# Altium integrated library TI Amplifiers and Linear Special Function Amplifier.IntLib: 708 symbols (part 26 of 47)
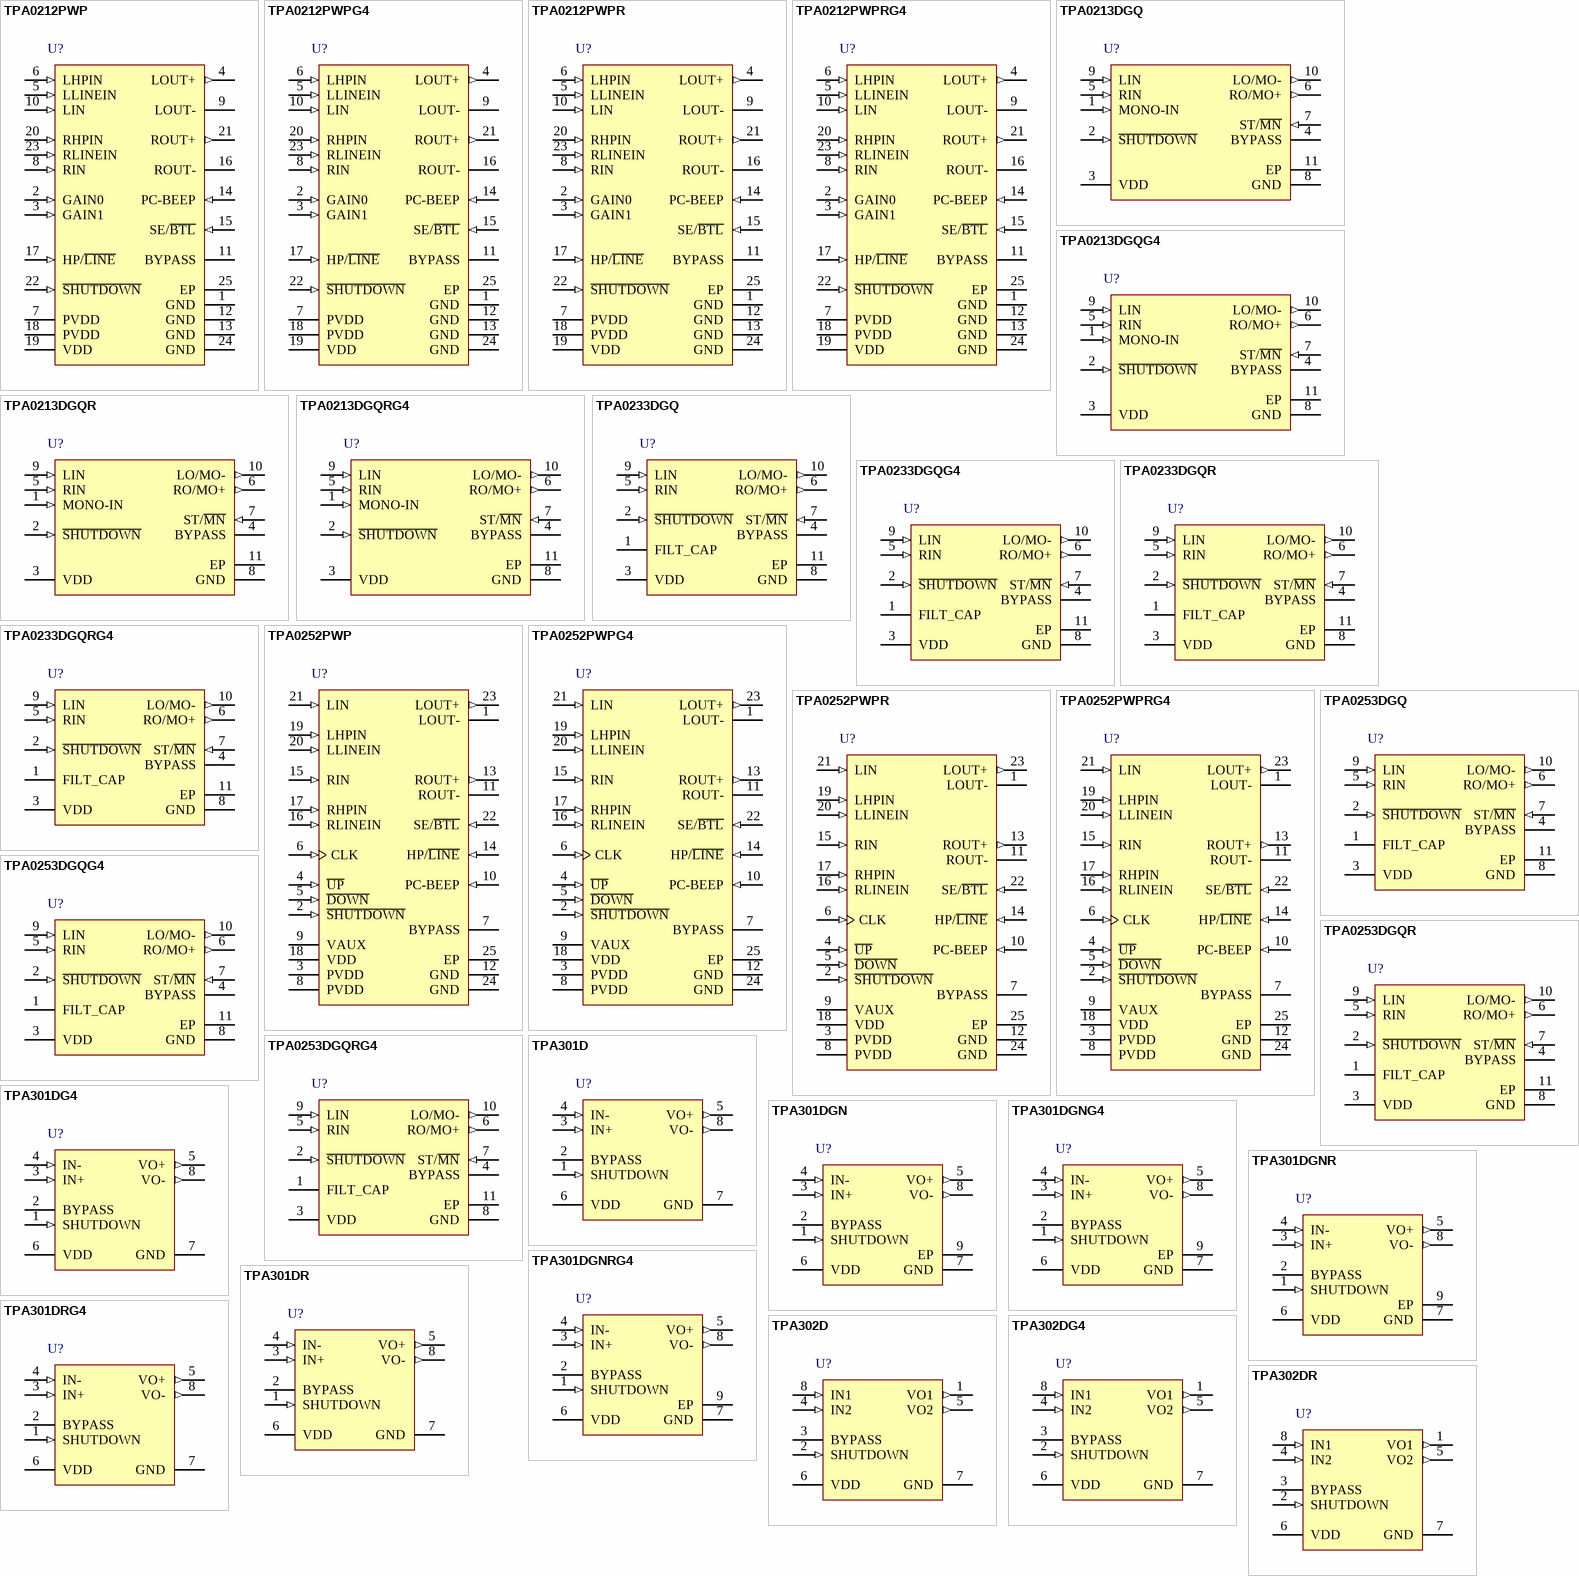
[diagram p64: symbols TPA0212PWP to TPA302DR]

## TPA0213DGQR
designator U?
Mono Class-AB Audio Amplifier with Stereo Headphone Drive--Separate Input, -40 to 85 degC, 10-pin SOP (DGQ10), Green (RoHS & no Sb/Br); Manufacturer: Texas Instruments; PartNumber: TPA0213DGQR; Output Power(W): 2; PSRR(dB): 62; SubFamily: Dynamic Speaker; Supply Max(Max)(Volt): 5.5; Supply Min(Min)(Volt): 2.5; DatasheetVersion: SLOS276D; PackageVersion: 4073273/F, 11/2011; PackageReference: DGQ10-1675X1445TP; PackageDescription: 10-Pin Plastic Small Outline, Body 3 x 3 mm, Pitch 0.5 mm; Supplier 1: Digi-Key; Supplier Part Number 1: 296-7001-2-ND; Supplier 2: Digi-Key; Supplier Part Number 2: 296-7001-1-ND; Supplier 3: Digi-Key; Supplier Part Number 3: 296-7001-6-ND; Supplier 4: Mouser; Supplier Part Number 4: 595-TPA0213DGQR; Eco-Plan: Green (RoHS & no Sb/Br); Headphone Channels: Stereo; Speaker Amp Type: Class-AB; Speaker Channels: Mono; Mounting Technology: Surface Mount; Code_JEDEC: MO-187; ComponentLink1Description: Manufacturer URL; ComponentLink1URL: http://www.ti.com/; ComponentLink2Description: Datasheet; ComponentLink2URL: http://www.ti.com/general/docs/lit/getliterature.tsp?genericPartNumber=TPA0213&fileType=pdf; ComponentLink3Description: Package Specification; ComponentLink3URL: http://www.ti.com/litv/pdf/mpds043e
footprint TI-DGQ10-1675X1445TP_N (SOP, 10-Leads, Body 3.1x3.1mm, Pitch 0.5mm, Thermal Pad 1.88x1.57mm, IPC Medium Density)
footprint TI-DGQ10-1675X1445TP_L (SOP, 10-Leads, Body 3.1x3.1mm, Pitch 0.5mm, Thermal Pad 1.88x1.57mm, IPC High Density)
footprint TI-DGQ10-1675X1445TP_M (SOP, 10-Leads, Body 3.1x3.1mm, Pitch 0.5mm, Thermal Pad 1.88x1.57mm, IPC Low Density)
pins: 1 MONO-IN (in) "Mono input terminal", 2 ~{SHUTDOWN} (in) "S\H\U\T\D\O\W\N\ places the entire device in shutdown mode when held low. TTL compatible input.", 3 VDD (power) "VDD is the supply voltage terminal.", 4 BYPASS "BYPASS is the tap to the voltage divider for internal mid-supply bias. This terminal should be connected to a 0.1-uF to 1-uF capacitor.", 5 RIN (in) "Right-channel input terminal", 6 RO/MO+ (out) "Right-output in SE mode and mono positive output in BTL mode", 7 ST/~{MN} (in) "Selects between stereo and mono mode. When held high, the amplifier is in SE stereo mode, while held low,the amplifier is in BTL mono mode.", 8 GND (power) "Ground terminal", 9 LIN (in) "Left-channel input terminal", 10 LO/MO- (out) "Left-output in SE mode and mono negative output in BTL mode.", 11 EP

## TPA0213DGQRG4
designator U?
Mono Class-AB Audio Amplifier with Stereo Headphone Drive--Separate Input, -40 to 85 degC, 10-pin SOP (DGQ10), Green (RoHS & no Sb/Br); Manufacturer: Texas Instruments; PartNumber: TPA0213DGQRG4; Output Power(W): 2; PSRR(dB): 62; SubFamily: Dynamic Speaker; Supply Max(Max)(Volt): 5.5; Supply Min(Min)(Volt): 2.5; DatasheetVersion: SLOS276D; PackageVersion: 4073273/F, 11/2011; PackageReference: DGQ10-1675X1445TP; PackageDescription: 10-Pin Plastic Small Outline, Body 3 x 3 mm, Pitch 0.5 mm; Supplier 1: Digi-Key; Supplier Part Number 1: TPA0213DGQRG4-ND; Supplier 2: Mouser; Supplier Part Number 2: 595-TPA0213DGQRG4; Eco-Plan: Green (RoHS & no Sb/Br); Headphone Channels: Stereo; Speaker Amp Type: Class-AB; Speaker Channels: Mono; Mounting Technology: Surface Mount; Code_JEDEC: MO-187; ComponentLink1Description: Manufacturer URL; ComponentLink1URL: http://www.ti.com/; ComponentLink2Description: Datasheet; ComponentLink2URL: http://www.ti.com/general/docs/lit/getliterature.tsp?genericPartNumber=TPA0213&fileType=pdf; ComponentLink3Description: Package Specification; ComponentLink3URL: http://www.ti.com/litv/pdf/mpds043e
footprint TI-DGQ10-1675X1445TP_N (SOP, 10-Leads, Body 3.1x3.1mm, Pitch 0.5mm, Thermal Pad 1.88x1.57mm, IPC Medium Density)
footprint TI-DGQ10-1675X1445TP_L (SOP, 10-Leads, Body 3.1x3.1mm, Pitch 0.5mm, Thermal Pad 1.88x1.57mm, IPC High Density)
footprint TI-DGQ10-1675X1445TP_M (SOP, 10-Leads, Body 3.1x3.1mm, Pitch 0.5mm, Thermal Pad 1.88x1.57mm, IPC Low Density)
pins: 1 MONO-IN (in) "Mono input terminal", 2 ~{SHUTDOWN} (in) "S\H\U\T\D\O\W\N\ places the entire device in shutdown mode when held low. TTL compatible input.", 3 VDD (power) "VDD is the supply voltage terminal.", 4 BYPASS "BYPASS is the tap to the voltage divider for internal mid-supply bias. This terminal should be connected to a 0.1-uF to 1-uF capacitor.", 5 RIN (in) "Right-channel input terminal", 6 RO/MO+ (out) "Right-output in SE mode and mono positive output in BTL mode", 7 ST/~{MN} (in) "Selects between stereo and mono mode. When held high, the amplifier is in SE stereo mode, while held low,the amplifier is in BTL mono mode.", 8 GND (power) "Ground terminal", 9 LIN (in) "Left-channel input terminal", 10 LO/MO- (out) "Left-output in SE mode and mono negative output in BTL mode.", 11 EP

## TPA0233DGQ
designator U?
Mono Class-AB Audio Amplifier with Stereo Headphone Drive--Summed Input, -40 to 85 degC, 10-pin SOP (DGQ10), Green (RoHS & no Sb/Br); Manufacturer: Texas Instruments; PartNumber: TPA0233DGQ; Output Power(W): 2; PSRR(dB): 58; SubFamily: Dynamic Speaker; Supply Max(Max)(Volt): 5.5; Supply Min(Min)(Volt): 2.5; DatasheetVersion: SLOS278D; PackageVersion: 4073273/F, 11/2011; PackageReference: DGQ10-1675X1445TP; PackageDescription: 10-Pin Plastic Small Outline, Body 3 x 3 mm, Pitch 0.5 mm; Supplier 1: Digi-Key; Supplier Part Number 1: 296-34549-5-ND; Supplier 2: Newark; Supplier Part Number 2: 19C9026; Supplier 3: Mouser; Supplier Part Number 3: 595-TPA0233DGQ; Eco-Plan: Green (RoHS & no Sb/Br); Headphone Channels: Stereo; Speaker Amp Type: Class-AB; Speaker Channels: Mono; Mounting Technology: Surface Mount; Code_JEDEC: MO-187; ComponentLink1Description: Manufacturer URL; ComponentLink1URL: http://www.ti.com/; ComponentLink2Description: Datasheet; ComponentLink2URL: http://www.ti.com/general/docs/lit/getliterature.tsp?genericPartNumber=TPA0233&fileType=pdf; ComponentLink3Description: Package Specification; ComponentLink3URL: http://www.ti.com/litv/pdf/mpds043e
footprint TI-DGQ10-1675X1445TP_N (SOP, 10-Leads, Body 3.1x3.1mm, Pitch 0.5mm, Thermal Pad 1.88x1.57mm, IPC Medium Density)
footprint TI-DGQ10-1675X1445TP_L (SOP, 10-Leads, Body 3.1x3.1mm, Pitch 0.5mm, Thermal Pad 1.88x1.57mm, IPC High Density)
footprint TI-DGQ10-1675X1445TP_M (SOP, 10-Leads, Body 3.1x3.1mm, Pitch 0.5mm, Thermal Pad 1.88x1.57mm, IPC Low Density)
pins: 1 FILT_CAP "Terminal is used to filter supply.", 2 ~{SHUTDOWN} (in) "TTL-compatible shutdown terminal", 3 VDD (power) "VDD is the supply voltage terminal.", 4 BYPASS "Midrail bias voltage", 5 RIN (in) "Right-channel input terminal", 6 RO/MO+ (out) "Right-output in SE mode and mono positive output in BTL mode", 7 ST/~{MN} (in) "Selects between stereo and mono mode. When held high, the amplifier is in SE stereo mode, while held low,the amplifier is in BTL mono mode.", 8 GND (power) "Ground terminal", 9 LIN (in) "Left-channel input terminal", 10 LO/MO- (out) "Left-output in SE mode and mono negative output in BTL mode.", 11 EP

## TPA0233DGQG4
designator U?
Mono Class-AB Audio Amplifier with Stereo Headphone Drive--Summed Input, -40 to 85 degC, 10-pin SOP (DGQ10), Green (RoHS & no Sb/Br); Manufacturer: Texas Instruments; PartNumber: TPA0233DGQG4; Output Power(W): 2; PSRR(dB): 58; SubFamily: Dynamic Speaker; Supply Max(Max)(Volt): 5.5; Supply Min(Min)(Volt): 2.5; DatasheetVersion: SLOS278D; PackageVersion: 4073273/F, 11/2011; PackageReference: DGQ10-1675X1445TP; PackageDescription: 10-Pin Plastic Small Outline, Body 3 x 3 mm, Pitch 0.5 mm; Supplier 1: Digi-Key; Supplier Part Number 1: TPA0233DGQG4-ND; Supplier 2: Mouser; Supplier Part Number 2: 595-TPA0233DGQG4; Eco-Plan: Green (RoHS & no Sb/Br); Headphone Channels: Stereo; Speaker Amp Type: Class-AB; Speaker Channels: Mono; Mounting Technology: Surface Mount; Code_JEDEC: MO-187; ComponentLink1Description: Manufacturer URL; ComponentLink1URL: http://www.ti.com/; ComponentLink2Description: Datasheet; ComponentLink2URL: http://www.ti.com/general/docs/lit/getliterature.tsp?genericPartNumber=TPA0233&fileType=pdf; ComponentLink3Description: Package Specification; ComponentLink3URL: http://www.ti.com/litv/pdf/mpds043e
footprint TI-DGQ10-1675X1445TP_N (SOP, 10-Leads, Body 3.1x3.1mm, Pitch 0.5mm, Thermal Pad 1.88x1.57mm, IPC Medium Density)
footprint TI-DGQ10-1675X1445TP_L (SOP, 10-Leads, Body 3.1x3.1mm, Pitch 0.5mm, Thermal Pad 1.88x1.57mm, IPC High Density)
footprint TI-DGQ10-1675X1445TP_M (SOP, 10-Leads, Body 3.1x3.1mm, Pitch 0.5mm, Thermal Pad 1.88x1.57mm, IPC Low Density)
pins: 1 FILT_CAP "Terminal is used to filter supply.", 2 ~{SHUTDOWN} (in) "TTL-compatible shutdown terminal", 3 VDD (power) "VDD is the supply voltage terminal.", 4 BYPASS "Midrail bias voltage", 5 RIN (in) "Right-channel input terminal", 6 RO/MO+ (out) "Right-output in SE mode and mono positive output in BTL mode", 7 ST/~{MN} (in) "Selects between stereo and mono mode. When held high, the amplifier is in SE stereo mode, while held low,the amplifier is in BTL mono mode.", 8 GND (power) "Ground terminal", 9 LIN (in) "Left-channel input terminal", 10 LO/MO- (out) "Left-output in SE mode and mono negative output in BTL mode.", 11 EP

## TPA0233DGQR
designator U?
Mono Class-AB Audio Amplifier with Stereo Headphone Drive--Summed Input, -40 to 85 degC, 10-pin SOP (DGQ10), Green (RoHS & no Sb/Br); Manufacturer: Texas Instruments; PartNumber: TPA0233DGQR; Output Power(W): 2; PSRR(dB): 58; SubFamily: Dynamic Speaker; Supply Max(Max)(Volt): 5.5; Supply Min(Min)(Volt): 2.5; DatasheetVersion: SLOS278D; PackageVersion: 4073273/F, 11/2011; PackageReference: DGQ10-1675X1445TP; PackageDescription: 10-Pin Plastic Small Outline, Body 3 x 3 mm, Pitch 0.5 mm; Supplier 1: Digi-Key; Supplier Part Number 1: 296-7003-2-ND; Supplier 2: Digi-Key; Supplier Part Number 2: 296-7003-1-ND; Supplier 3: Digi-Key; Supplier Part Number 3: 296-7003-6-ND; Supplier 4: Newark; Supplier Part Number 4: 76C9735; Supplier 5: Mouser; Supplier Part Number 5: 595-TPA0233DGQR; Eco-Plan: Green (RoHS & no Sb/Br); Headphone Channels: Stereo; Speaker Amp Type: Class-AB; Speaker Channels: Mono; Mounting Technology: Surface Mount; Code_JEDEC: MO-187; ComponentLink1Description: Manufacturer URL; ComponentLink1URL: http://www.ti.com/; ComponentLink2Description: Datasheet; ComponentLink2URL: http://www.ti.com/general/docs/lit/getliterature.tsp?genericPartNumber=TPA0233&fileType=pdf; ComponentLink3Description: Package Specification; ComponentLink3URL: http://www.ti.com/litv/pdf/mpds043e
footprint TI-DGQ10-1675X1445TP_N (SOP, 10-Leads, Body 3.1x3.1mm, Pitch 0.5mm, Thermal Pad 1.88x1.57mm, IPC Medium Density)
footprint TI-DGQ10-1675X1445TP_L (SOP, 10-Leads, Body 3.1x3.1mm, Pitch 0.5mm, Thermal Pad 1.88x1.57mm, IPC High Density)
footprint TI-DGQ10-1675X1445TP_M (SOP, 10-Leads, Body 3.1x3.1mm, Pitch 0.5mm, Thermal Pad 1.88x1.57mm, IPC Low Density)
pins: 1 FILT_CAP "Terminal is used to filter supply.", 2 ~{SHUTDOWN} (in) "TTL-compatible shutdown terminal", 3 VDD (power) "VDD is the supply voltage terminal.", 4 BYPASS "Midrail bias voltage", 5 RIN (in) "Right-channel input terminal", 6 RO/MO+ (out) "Right-output in SE mode and mono positive output in BTL mode", 7 ST/~{MN} (in) "Selects between stereo and mono mode. When held high, the amplifier is in SE stereo mode, while held low,the amplifier is in BTL mono mode.", 8 GND (power) "Ground terminal", 9 LIN (in) "Left-channel input terminal", 10 LO/MO- (out) "Left-output in SE mode and mono negative output in BTL mode.", 11 EP

## TPA0233DGQRG4
designator U?
Mono Class-AB Audio Amplifier with Stereo Headphone Drive--Summed Input, -40 to 85 degC, 10-pin SOP (DGQ10), Green (RoHS & no Sb/Br); Manufacturer: Texas Instruments; PartNumber: TPA0233DGQRG4; Output Power(W): 2; PSRR(dB): 58; SubFamily: Dynamic Speaker; Supply Max(Max)(Volt): 5.5; Supply Min(Min)(Volt): 2.5; DatasheetVersion: SLOS278D; PackageVersion: 4073273/F, 11/2011; PackageReference: DGQ10-1675X1445TP; PackageDescription: 10-Pin Plastic Small Outline, Body 3 x 3 mm, Pitch 0.5 mm; Supplier 1: Digi-Key; Supplier Part Number 1: TPA0233DGQRG4-ND; Supplier 2: Mouser; Supplier Part Number 2: 595-TPA0233DGQRG4; Eco-Plan: Green (RoHS & no Sb/Br); Headphone Channels: Stereo; Speaker Amp Type: Class-AB; Speaker Channels: Mono; Mounting Technology: Surface Mount; Code_JEDEC: MO-187; ComponentLink1Description: Manufacturer URL; ComponentLink1URL: http://www.ti.com/; ComponentLink2Description: Datasheet; ComponentLink2URL: http://www.ti.com/general/docs/lit/getliterature.tsp?genericPartNumber=TPA0233&fileType=pdf; ComponentLink3Description: Package Specification; ComponentLink3URL: http://www.ti.com/litv/pdf/mpds043e
footprint TI-DGQ10-1675X1445TP_N (SOP, 10-Leads, Body 3.1x3.1mm, Pitch 0.5mm, Thermal Pad 1.88x1.57mm, IPC Medium Density)
footprint TI-DGQ10-1675X1445TP_L (SOP, 10-Leads, Body 3.1x3.1mm, Pitch 0.5mm, Thermal Pad 1.88x1.57mm, IPC High Density)
footprint TI-DGQ10-1675X1445TP_M (SOP, 10-Leads, Body 3.1x3.1mm, Pitch 0.5mm, Thermal Pad 1.88x1.57mm, IPC Low Density)
pins: 1 FILT_CAP "Terminal is used to filter supply.", 2 ~{SHUTDOWN} (in) "TTL-compatible shutdown terminal", 3 VDD (power) "VDD is the supply voltage terminal.", 4 BYPASS "Midrail bias voltage", 5 RIN (in) "Right-channel input terminal", 6 RO/MO+ (out) "Right-output in SE mode and mono positive output in BTL mode", 7 ST/~{MN} (in) "Selects between stereo and mono mode. When held high, the amplifier is in SE stereo mode, while held low,the amplifier is in BTL mono mode.", 8 GND (power) "Ground terminal", 9 LIN (in) "Left-channel input terminal", 10 LO/MO- (out) "Left-output in SE mode and mono negative output in BTL mode.", 11 EP

## TPA0252PWP
designator U?
Stereo Class-AB Audio Amplifier with Stereo Headphone Drive, Volume Control Memory, -40 to 85 degC, 24-pin SOP (PWP24), Green (RoHS & no Sb/Br); Manufacturer: Texas Instruments; PartNumber: TPA0252PWP; Output Power(W): 2.8; PSRR(dB): 65; SubFamily: Dynamic Speaker; Supply Max(Max)(Volt): 5.5; Supply Min(Min)(Volt): 4.5; DatasheetVersion: SLOS288B; PackageVersion: 4073225-5/I, 05/2011; PackageReference: PWP24-4820X1950TP; PackageDescription: 24-Pin Plastic Small Outline, Body 4.4 x 7.8 mm, Pitch 0.65 mm; Supplier 1: Digi-Key; Supplier Part Number 1: 296-7005-5-ND; Supplier 2: Mouser; Supplier Part Number 2: 595-TPA0252PWP; Eco-Plan: Green (RoHS & no Sb/Br); Headphone Channels: Stereo; Speaker Amp Type: Class-AB; Speaker Channels: Stereo; Mounting Technology: Surface Mount; Code_JEDEC: MO-153; ComponentLink1Description: Manufacturer URL; ComponentLink1URL: http://www.ti.com/; ComponentLink2Description: Datasheet; ComponentLink2URL: http://www.ti.com/general/docs/lit/getliterature.tsp?genericPartNumber=TPA0252&fileType=pdf; ComponentLink3Description: Package Specification; ComponentLink3URL: http://www.ti.com/litv/pdf/mpds372
footprint TI-PWP24-4820X1950TP_N (SOP, 24-Leads, Body 7.8x4.4mm, Pitch 0.65mm, Thermal Pad 4.87x2.4mm, IPC Medium Density)
footprint TI-PWP24-4820X1950TP_L (SOP, 24-Leads, Body 7.8x4.4mm, Pitch 0.65mm, Thermal Pad 4.87x2.4mm, IPC High Density)
footprint TI-PWP24-4820X1950TP_M (SOP, 24-Leads, Body 7.8x4.4mm, Pitch 0.65mm, Thermal Pad 4.87x2.4mm, IPC Low Density)
pins: 1 LOUT- (hiz) "Left-channel negative output in B\T\L\ mode and high impedance in SE mode", 2 ~{SHUTDOWN} (in) "When held low, this terminal places the device in the shutdown mode, except for the PC-BEEP input and the I2C bus.", 3 PVDD (power) "Power supply", 4 ~{UP} (in) "A momentary pulse on this terminal increases the volume level by 2 dB. Holding the terminal low for a period of time steps the amplifier through the volume levels at a rate determined by the capacitor on the CLK terminal.", 5 ~{DOWN} (in) "A momentary pulse on this terminal decreases the volume level by 2 dB. Holding the terminal low for a period of time steps the amplifier through the volume levels at a rate determined by the capacitor on the CLK terminal.", 6 CLK (in) "If a 47-nF capacitor is attached, the TPA0252 generates an internal clock. An external clock can override the internal clock input to this terminal.", 7 BYPASS "Tap to voltage divider for internal midsupply bias generator.", 8 PVDD (power) "Power supply", 9 VAUX (power) "Volume control memory supply. Connect to system auxiliary that stays active when device is powered down.", 10 PC-BEEP (in) "The input for PC beep mode. PC-BEEP is enabled when a > 1.5-V (peak-to-peak) square wave is input to PC-BEEP.", 11 ROUT- (hiz) "Right-channel negative output in B\T\L\ mode, and high impedance in SE mode.", 12 GND (power) "Ground connection for circuitry. Connected to thermal pad", 13 ROUT+ (out) "Right-channel positive output in B\T\L\ mode and positive in SE mode", 14 HP/~{LINE} (in) "Input MUX control. When terminal is high, the LHPIN and RHPIN inputs are selected. When terminal is low, LLINEIN and RLINEIN inputs are selected.", 15 RIN (in) "Common right input for fully differential input. AC ground for single-ended inputs", 16 RLINEIN (in) "Right-channel line input, selected when HP/L\I\N\E\ is held low", 17 RHPIN (in) "Right channel headphone input, selected when HP/L\I\N\E\ is held high", 18 VDD (power) "Analog VDD input supply. This terminal needs to be isolated from PVDD to achieve highest performance.", 19 LHPIN (in) "Left-channel headphone input, selected when HP/L\I\N\E\ is held high", 20 LLINEIN (in) "Left-channel line negative input, selected when HP/L\I\N\E\ is held low", 21 LIN (in) "Common left input for fully differential input. AC ground for single-ended inputs", 22 SE/~{BTL} (in) "Input and output MUX control. When this terminal is held high SE outputs are selected. When this terminal is held low BTL outputs are selected.", 23 LOUT+ (out) "Left-channel positive output in B\T\L\ mode and positive in SE mode", 24 GND (power) "Ground connection for circuitry. Connected to thermal pad", 25 EP (power) "Connect to ground. Must be soldered down in all applications to properly secure device on PC board."

## TPA0252PWPG4
designator U?
Stereo Class-AB Audio Amplifier with Stereo Headphone Drive, Volume Control Memory, -40 to 85 degC, 24-pin SOP (PWP24), Green (RoHS & no Sb/Br); Manufacturer: Texas Instruments; PartNumber: TPA0252PWPG4; Output Power(W): 2.8; PSRR(dB): 65; SubFamily: Dynamic Speaker; Supply Max(Max)(Volt): 5.5; Supply Min(Min)(Volt): 4.5; DatasheetVersion: SLOS288B; PackageVersion: 4073225-5/I, 05/2011; PackageReference: PWP24-4820X1950TP; PackageDescription: 24-Pin Plastic Small Outline, Body 4.4 x 7.8 mm, Pitch 0.65 mm; Supplier 1: Digi-Key; Supplier Part Number 1: TPA0252PWPG4-ND; Supplier 2: Newark; Supplier Part Number 2: 60M1773; Supplier 3: Mouser; Supplier Part Number 3: 595-TPA0252PWPG4; Eco-Plan: Green (RoHS & no Sb/Br); Headphone Channels: Stereo; Speaker Amp Type: Class-AB; Speaker Channels: Stereo; Mounting Technology: Surface Mount; Code_JEDEC: MO-153; ComponentLink1Description: Manufacturer URL; ComponentLink1URL: http://www.ti.com/; ComponentLink2Description: Datasheet; ComponentLink2URL: http://www.ti.com/general/docs/lit/getliterature.tsp?genericPartNumber=TPA0252&fileType=pdf; ComponentLink3Description: Package Specification; ComponentLink3URL: http://www.ti.com/litv/pdf/mpds372
footprint TI-PWP24-4820X1950TP_N (SOP, 24-Leads, Body 7.8x4.4mm, Pitch 0.65mm, Thermal Pad 4.87x2.4mm, IPC Medium Density)
footprint TI-PWP24-4820X1950TP_L (SOP, 24-Leads, Body 7.8x4.4mm, Pitch 0.65mm, Thermal Pad 4.87x2.4mm, IPC High Density)
footprint TI-PWP24-4820X1950TP_M (SOP, 24-Leads, Body 7.8x4.4mm, Pitch 0.65mm, Thermal Pad 4.87x2.4mm, IPC Low Density)
pins: 1 LOUT- (hiz) "Left-channel negative output in B\T\L\ mode and high impedance in SE mode", 2 ~{SHUTDOWN} (in) "When held low, this terminal places the device in the shutdown mode, except for the PC-BEEP input and the I2C bus.", 3 PVDD (power) "Power supply", 4 ~{UP} (in) "A momentary pulse on this terminal increases the volume level by 2 dB. Holding the terminal low for a period of time steps the amplifier through the volume levels at a rate determined by the capacitor on the CLK terminal.", 5 ~{DOWN} (in) "A momentary pulse on this terminal decreases the volume level by 2 dB. Holding the terminal low for a period of time steps the amplifier through the volume levels at a rate determined by the capacitor on the CLK terminal.", 6 CLK (in) "If a 47-nF capacitor is attached, the TPA0252 generates an internal clock. An external clock can override the internal clock input to this terminal.", 7 BYPASS "Tap to voltage divider for internal midsupply bias generator.", 8 PVDD (power) "Power supply", 9 VAUX (power) "Volume control memory supply. Connect to system auxiliary that stays active when device is powered down.", 10 PC-BEEP (in) "The input for PC beep mode. PC-BEEP is enabled when a > 1.5-V (peak-to-peak) square wave is input to PC-BEEP.", 11 ROUT- (hiz) "Right-channel negative output in B\T\L\ mode, and high impedance in SE mode.", 12 GND (power) "Ground connection for circuitry. Connected to thermal pad", 13 ROUT+ (out) "Right-channel positive output in B\T\L\ mode and positive in SE mode", 14 HP/~{LINE} (in) "Input MUX control. When terminal is high, the LHPIN and RHPIN inputs are selected. When terminal is low, LLINEIN and RLINEIN inputs are selected.", 15 RIN (in) "Common right input for fully differential input. AC ground for single-ended inputs", 16 RLINEIN (in) "Right-channel line input, selected when HP/L\I\N\E\ is held low", 17 RHPIN (in) "Right channel headphone input, selected when HP/L\I\N\E\ is held high", 18 VDD (power) "Analog VDD input supply. This terminal needs to be isolated from PVDD to achieve highest performance.", 19 LHPIN (in) "Left-channel headphone input, selected when HP/L\I\N\E\ is held high", 20 LLINEIN (in) "Left-channel line negative input, selected when HP/L\I\N\E\ is held low", 21 LIN (in) "Common left input for fully differential input. AC ground for single-ended inputs", 22 SE/~{BTL} (in) "Input and output MUX control. When this terminal is held high SE outputs are selected. When this terminal is held low BTL outputs are selected.", 23 LOUT+ (out) "Left-channel positive output in B\T\L\ mode and positive in SE mode", 24 GND (power) "Ground connection for circuitry. Connected to thermal pad", 25 EP (power) "Connect to ground. Must be soldered down in all applications to properly secure device on PC board."

## TPA0252PWPR
designator U?
Stereo Class-AB Audio Amplifier with Stereo Headphone Drive, Volume Control Memory, -40 to 85 degC, 24-pin SOP (PWP24), Green (RoHS & no Sb/Br); Manufacturer: Texas Instruments; PartNumber: TPA0252PWPR; Output Power(W): 2.8; PSRR(dB): 65; SubFamily: Dynamic Speaker; Supply Max(Max)(Volt): 5.5; Supply Min(Min)(Volt): 4.5; DatasheetVersion: SLOS288B; PackageVersion: 4073225-5/I, 05/2011; PackageReference: PWP24-4820X1950TP; PackageDescription: 24-Pin Plastic Small Outline, Body 4.4 x 7.8 mm, Pitch 0.65 mm; Supplier 1: Digi-Key; Supplier Part Number 1: TPA0252PWPR-ND; Supplier 2: Mouser; Supplier Part Number 2: 595-TPA0252PWPR; Eco-Plan: Green (RoHS & no Sb/Br); Headphone Channels: Stereo; Speaker Amp Type: Class-AB; Speaker Channels: Stereo; Mounting Technology: Surface Mount; Code_JEDEC: MO-153; ComponentLink1Description: Manufacturer URL; ComponentLink1URL: http://www.ti.com/; ComponentLink2Description: Datasheet; ComponentLink2URL: http://www.ti.com/general/docs/lit/getliterature.tsp?genericPartNumber=TPA0252&fileType=pdf; ComponentLink3Description: Package Specification; ComponentLink3URL: http://www.ti.com/litv/pdf/mpds372
footprint TI-PWP24-4820X1950TP_N (SOP, 24-Leads, Body 7.8x4.4mm, Pitch 0.65mm, Thermal Pad 4.87x2.4mm, IPC Medium Density)
footprint TI-PWP24-4820X1950TP_L (SOP, 24-Leads, Body 7.8x4.4mm, Pitch 0.65mm, Thermal Pad 4.87x2.4mm, IPC High Density)
footprint TI-PWP24-4820X1950TP_M (SOP, 24-Leads, Body 7.8x4.4mm, Pitch 0.65mm, Thermal Pad 4.87x2.4mm, IPC Low Density)
pins: 1 LOUT- (hiz) "Left-channel negative output in B\T\L\ mode and high impedance in SE mode", 2 ~{SHUTDOWN} (in) "When held low, this terminal places the device in the shutdown mode, except for the PC-BEEP input and the I2C bus.", 3 PVDD (power) "Power supply", 4 ~{UP} (in) "A momentary pulse on this terminal increases the volume level by 2 dB. Holding the terminal low for a period of time steps the amplifier through the volume levels at a rate determined by the capacitor on the CLK terminal.", 5 ~{DOWN} (in) "A momentary pulse on this terminal decreases the volume level by 2 dB. Holding the terminal low for a period of time steps the amplifier through the volume levels at a rate determined by the capacitor on the CLK terminal.", 6 CLK (in) "If a 47-nF capacitor is attached, the TPA0252 generates an internal clock. An external clock can override the internal clock input to this terminal.", 7 BYPASS "Tap to voltage divider for internal midsupply bias generator.", 8 PVDD (power) "Power supply", 9 VAUX (power) "Volume control memory supply. Connect to system auxiliary that stays active when device is powered down.", 10 PC-BEEP (in) "The input for PC beep mode. PC-BEEP is enabled when a > 1.5-V (peak-to-peak) square wave is input to PC-BEEP.", 11 ROUT- (hiz) "Right-channel negative output in B\T\L\ mode, and high impedance in SE mode.", 12 GND (power) "Ground connection for circuitry. Connected to thermal pad", 13 ROUT+ (out) "Right-channel positive output in B\T\L\ mode and positive in SE mode", 14 HP/~{LINE} (in) "Input MUX control. When terminal is high, the LHPIN and RHPIN inputs are selected. When terminal is low, LLINEIN and RLINEIN inputs are selected.", 15 RIN (in) "Common right input for fully differential input. AC ground for single-ended inputs", 16 RLINEIN (in) "Right-channel line input, selected when HP/L\I\N\E\ is held low", 17 RHPIN (in) "Right channel headphone input, selected when HP/L\I\N\E\ is held high", 18 VDD (power) "Analog VDD input supply. This terminal needs to be isolated from PVDD to achieve highest performance.", 19 LHPIN (in) "Left-channel headphone input, selected when HP/L\I\N\E\ is held high", 20 LLINEIN (in) "Left-channel line negative input, selected when HP/L\I\N\E\ is held low", 21 LIN (in) "Common left input for fully differential input. AC ground for single-ended inputs", 22 SE/~{BTL} (in) "Input and output MUX control. When this terminal is held high SE outputs are selected. When this terminal is held low BTL outputs are selected.", 23 LOUT+ (out) "Left-channel positive output in B\T\L\ mode and positive in SE mode", 24 GND (power) "Ground connection for circuitry. Connected to thermal pad", 25 EP (power) "Connect to ground. Must be soldered down in all applications to properly secure device on PC board."

## TPA0252PWPRG4
designator U?
Stereo Class-AB Audio Amplifier with Stereo Headphone Drive, Volume Control Memory, -40 to 85 degC, 24-pin SOP (PWP24), Green (RoHS & no Sb/Br); Manufacturer: Texas Instruments; PartNumber: TPA0252PWPRG4; Output Power(W): 2.8; PSRR(dB): 65; SubFamily: Dynamic Speaker; Supply Max(Max)(Volt): 5.5; Supply Min(Min)(Volt): 4.5; DatasheetVersion: SLOS288B; PackageVersion: 4073225-5/I, 05/2011; PackageReference: PWP24-4820X1950TP; PackageDescription: 24-Pin Plastic Small Outline, Body 4.4 x 7.8 mm, Pitch 0.65 mm; Supplier 1: Digi-Key; Supplier Part Number 1: TPA0252PWPRG4-ND; Supplier 2: Mouser; Supplier Part Number 2: 595-TPA0252PWPRG4; Eco-Plan: Green (RoHS & no Sb/Br); Headphone Channels: Stereo; Speaker Amp Type: Class-AB; Speaker Channels: Stereo; Mounting Technology: Surface Mount; Code_JEDEC: MO-153; ComponentLink1Description: Manufacturer URL; ComponentLink1URL: http://www.ti.com/; ComponentLink2Description: Datasheet; ComponentLink2URL: http://www.ti.com/general/docs/lit/getliterature.tsp?genericPartNumber=TPA0252&fileType=pdf; ComponentLink3Description: Package Specification; ComponentLink3URL: http://www.ti.com/litv/pdf/mpds372
footprint TI-PWP24-4820X1950TP_N (SOP, 24-Leads, Body 7.8x4.4mm, Pitch 0.65mm, Thermal Pad 4.87x2.4mm, IPC Medium Density)
footprint TI-PWP24-4820X1950TP_L (SOP, 24-Leads, Body 7.8x4.4mm, Pitch 0.65mm, Thermal Pad 4.87x2.4mm, IPC High Density)
footprint TI-PWP24-4820X1950TP_M (SOP, 24-Leads, Body 7.8x4.4mm, Pitch 0.65mm, Thermal Pad 4.87x2.4mm, IPC Low Density)
pins: 1 LOUT- (hiz) "Left-channel negative output in B\T\L\ mode and high impedance in SE mode", 2 ~{SHUTDOWN} (in) "When held low, this terminal places the device in the shutdown mode, except for the PC-BEEP input and the I2C bus.", 3 PVDD (power) "Power supply", 4 ~{UP} (in) "A momentary pulse on this terminal increases the volume level by 2 dB. Holding the terminal low for a period of time steps the amplifier through the volume levels at a rate determined by the capacitor on the CLK terminal.", 5 ~{DOWN} (in) "A momentary pulse on this terminal decreases the volume level by 2 dB. Holding the terminal low for a period of time steps the amplifier through the volume levels at a rate determined by the capacitor on the CLK terminal.", 6 CLK (in) "If a 47-nF capacitor is attached, the TPA0252 generates an internal clock. An external clock can override the internal clock input to this terminal.", 7 BYPASS "Tap to voltage divider for internal midsupply bias generator.", 8 PVDD (power) "Power supply", 9 VAUX (power) "Volume control memory supply. Connect to system auxiliary that stays active when device is powered down.", 10 PC-BEEP (in) "The input for PC beep mode. PC-BEEP is enabled when a > 1.5-V (peak-to-peak) square wave is input to PC-BEEP.", 11 ROUT- (hiz) "Right-channel negative output in B\T\L\ mode, and high impedance in SE mode.", 12 GND (power) "Ground connection for circuitry. Connected to thermal pad", 13 ROUT+ (out) "Right-channel positive output in B\T\L\ mode and positive in SE mode", 14 HP/~{LINE} (in) "Input MUX control. When terminal is high, the LHPIN and RHPIN inputs are selected. When terminal is low, LLINEIN and RLINEIN inputs are selected.", 15 RIN (in) "Common right input for fully differential input. AC ground for single-ended inputs", 16 RLINEIN (in) "Right-channel line input, selected when HP/L\I\N\E\ is held low", 17 RHPIN (in) "Right channel headphone input, selected when HP/L\I\N\E\ is held high", 18 VDD (power) "Analog VDD input supply. This terminal needs to be isolated from PVDD to achieve highest performance.", 19 LHPIN (in) "Left-channel headphone input, selected when HP/L\I\N\E\ is held high", 20 LLINEIN (in) "Left-channel line negative input, selected when HP/L\I\N\E\ is held low", 21 LIN (in) "Common left input for fully differential input. AC ground for single-ended inputs", 22 SE/~{BTL} (in) "Input and output MUX control. When this terminal is held high SE outputs are selected. When this terminal is held low BTL outputs are selected.", 23 LOUT+ (out) "Left-channel positive output in B\T\L\ mode and positive in SE mode", 24 GND (power) "Ground connection for circuitry. Connected to thermal pad", 25 EP (power) "Connect to ground. Must be soldered down in all applications to properly secure device on PC board."

## TPA0253DGQ
designator U?
Mono, Low Power, Class-AB Audio Amplifier with Stereo Headphone Driver-Summing Input, -40 to 85 degC, 10-pin SOP (DGQ10), Green (RoHS & no Sb/Br); Manufacturer: Texas Instruments; PartNumber: TPA0253DGQ; Output Power(W): 1; PSRR(dB): 62; SubFamily: Dynamic Speaker; Supply Max(Max)(Volt): 5.5; Supply Min(Min)(Volt): 2.5; DatasheetVersion: SLOS280D; PackageVersion: 4073273/F, 11/2011; PackageReference: DGQ10-1675X1445TP; PackageDescription: 10-Pin Plastic Small Outline, Body 3 x 3 mm, Pitch 0.5 mm; Supplier 1: Digi-Key; Supplier Part Number 1: 296-34551-5-ND; Supplier 2: Newark; Supplier Part Number 2: 19C9028; Supplier 3: Mouser; Supplier Part Number 3: 595-TPA0253DGQ; Eco-Plan: Green (RoHS & no Sb/Br); Headphone Channels: Stereo; Speaker Amp Type: Class-AB; Speaker Channels: Mono; Mounting Technology: Surface Mount; Code_JEDEC: MO-187; ComponentLink1Description: Manufacturer URL; ComponentLink1URL: http://www.ti.com/; ComponentLink2Description: Datasheet; ComponentLink2URL: http://www.ti.com/general/docs/lit/getliterature.tsp?genericPartNumber=TPA0253&fileType=pdf; ComponentLink3Description: Package Specification; ComponentLink3URL: http://www.ti.com/litv/pdf/mpds043e
footprint TI-DGQ10-1675X1445TP_N (SOP, 10-Leads, Body 3.1x3.1mm, Pitch 0.5mm, Thermal Pad 1.88x1.57mm, IPC Medium Density)
footprint TI-DGQ10-1675X1445TP_L (SOP, 10-Leads, Body 3.1x3.1mm, Pitch 0.5mm, Thermal Pad 1.88x1.57mm, IPC High Density)
footprint TI-DGQ10-1675X1445TP_M (SOP, 10-Leads, Body 3.1x3.1mm, Pitch 0.5mm, Thermal Pad 1.88x1.57mm, IPC Low Density)
pins: 1 FILT_CAP "Terminal is used to filter supply.", 2 ~{SHUTDOWN} (in) "TTL-compatible shutdown terminal", 3 VDD (power) "VDD is the supply voltage terminal.", 4 BYPASS "Midrail bias voltage", 5 RIN (in) "Right-channel input terminal", 6 RO/MO+ (out) "Right-output in SE mode and mono positive output in BTL mode", 7 ST/~{MN} (in) "Selects between stereo and mono mode. When held high, the amplifier is in SE stereo mode, while held low,the amplifier is in BTL mono mode.", 8 GND (power) "Ground terminal", 9 LIN (in) "Left-channel input terminal", 10 LO/MO- (out) "Left-output in SE mode and mono negative output in BTL mode.", 11 EP

## TPA0253DGQG4
designator U?
Mono, Low Power, Class-AB Audio Amplifier with Stereo Headphone Driver-Summing Input, -40 to 85 degC, 10-pin SOP (DGQ10), Green (RoHS & no Sb/Br); Manufacturer: Texas Instruments; PartNumber: TPA0253DGQG4; Output Power(W): 1; PSRR(dB): 62; SubFamily: Dynamic Speaker; Supply Max(Max)(Volt): 5.5; Supply Min(Min)(Volt): 2.5; DatasheetVersion: SLOS280D; PackageVersion: 4073273/F, 11/2011; PackageReference: DGQ10-1675X1445TP; PackageDescription: 10-Pin Plastic Small Outline, Body 3 x 3 mm, Pitch 0.5 mm; Supplier 1: Digi-Key; Supplier Part Number 1: TPA0253DGQG4-ND; Supplier 2: Mouser; Supplier Part Number 2: 595-TPA0253DGQG4; Eco-Plan: Green (RoHS & no Sb/Br); Headphone Channels: Stereo; Speaker Amp Type: Class-AB; Speaker Channels: Mono; Mounting Technology: Surface Mount; Code_JEDEC: MO-187; ComponentLink1Description: Manufacturer URL; ComponentLink1URL: http://www.ti.com/; ComponentLink2Description: Datasheet; ComponentLink2URL: http://www.ti.com/general/docs/lit/getliterature.tsp?genericPartNumber=TPA0253&fileType=pdf; ComponentLink3Description: Package Specification; ComponentLink3URL: http://www.ti.com/litv/pdf/mpds043e
footprint TI-DGQ10-1675X1445TP_N (SOP, 10-Leads, Body 3.1x3.1mm, Pitch 0.5mm, Thermal Pad 1.88x1.57mm, IPC Medium Density)
footprint TI-DGQ10-1675X1445TP_L (SOP, 10-Leads, Body 3.1x3.1mm, Pitch 0.5mm, Thermal Pad 1.88x1.57mm, IPC High Density)
footprint TI-DGQ10-1675X1445TP_M (SOP, 10-Leads, Body 3.1x3.1mm, Pitch 0.5mm, Thermal Pad 1.88x1.57mm, IPC Low Density)
pins: 1 FILT_CAP "Terminal is used to filter supply.", 2 ~{SHUTDOWN} (in) "TTL-compatible shutdown terminal", 3 VDD (power) "VDD is the supply voltage terminal.", 4 BYPASS "Midrail bias voltage", 5 RIN (in) "Right-channel input terminal", 6 RO/MO+ (out) "Right-output in SE mode and mono positive output in BTL mode", 7 ST/~{MN} (in) "Selects between stereo and mono mode. When held high, the amplifier is in SE stereo mode, while held low,the amplifier is in BTL mono mode.", 8 GND (power) "Ground terminal", 9 LIN (in) "Left-channel input terminal", 10 LO/MO- (out) "Left-output in SE mode and mono negative output in BTL mode.", 11 EP

## TPA0253DGQR
designator U?
Mono, Low Power, Class-AB Audio Amplifier with Stereo Headphone Driver-Summing Input, -40 to 85 degC, 10-pin SOP (DGQ10), Green (RoHS & no Sb/Br); Manufacturer: Texas Instruments; PartNumber: TPA0253DGQR; Output Power(W): 1; PSRR(dB): 62; SubFamily: Dynamic Speaker; Supply Max(Max)(Volt): 5.5; Supply Min(Min)(Volt): 2.5; DatasheetVersion: SLOS280D; PackageVersion: 4073273/F, 11/2011; PackageReference: DGQ10-1675X1445TP; PackageDescription: 10-Pin Plastic Small Outline, Body 3 x 3 mm, Pitch 0.5 mm; Supplier 1: Digi-Key; Supplier Part Number 1: 296-7006-2-ND; Supplier 2: Digi-Key; Supplier Part Number 2: 296-7006-1-ND; Supplier 3: Digi-Key; Supplier Part Number 3: 296-7006-6-ND; Supplier 4: Mouser; Supplier Part Number 4: 595-TPA0253DGQR; Eco-Plan: Green (RoHS & no Sb/Br); Headphone Channels: Stereo; Speaker Amp Type: Class-AB; Speaker Channels: Mono; Mounting Technology: Surface Mount; Code_JEDEC: MO-187; ComponentLink1Description: Manufacturer URL; ComponentLink1URL: http://www.ti.com/; ComponentLink2Description: Datasheet; ComponentLink2URL: http://www.ti.com/general/docs/lit/getliterature.tsp?genericPartNumber=TPA0253&fileType=pdf; ComponentLink3Description: Package Specification; ComponentLink3URL: http://www.ti.com/litv/pdf/mpds043e
footprint TI-DGQ10-1675X1445TP_N (SOP, 10-Leads, Body 3.1x3.1mm, Pitch 0.5mm, Thermal Pad 1.88x1.57mm, IPC Medium Density)
footprint TI-DGQ10-1675X1445TP_L (SOP, 10-Leads, Body 3.1x3.1mm, Pitch 0.5mm, Thermal Pad 1.88x1.57mm, IPC High Density)
footprint TI-DGQ10-1675X1445TP_M (SOP, 10-Leads, Body 3.1x3.1mm, Pitch 0.5mm, Thermal Pad 1.88x1.57mm, IPC Low Density)
pins: 1 FILT_CAP "Terminal is used to filter supply.", 2 ~{SHUTDOWN} (in) "TTL-compatible shutdown terminal", 3 VDD (power) "VDD is the supply voltage terminal.", 4 BYPASS "Midrail bias voltage", 5 RIN (in) "Right-channel input terminal", 6 RO/MO+ (out) "Right-output in SE mode and mono positive output in BTL mode", 7 ST/~{MN} (in) "Selects between stereo and mono mode. When held high, the amplifier is in SE stereo mode, while held low,the amplifier is in BTL mono mode.", 8 GND (power) "Ground terminal", 9 LIN (in) "Left-channel input terminal", 10 LO/MO- (out) "Left-output in SE mode and mono negative output in BTL mode.", 11 EP

## TPA0253DGQRG4
designator U?
Mono, Low Power, Class-AB Audio Amplifier with Stereo Headphone Driver-Summing Input, -40 to 85 degC, 10-pin SOP (DGQ10), Green (RoHS & no Sb/Br); Manufacturer: Texas Instruments; PartNumber: TPA0253DGQRG4; Output Power(W): 1; PSRR(dB): 62; SubFamily: Dynamic Speaker; Supply Max(Max)(Volt): 5.5; Supply Min(Min)(Volt): 2.5; DatasheetVersion: SLOS280D; PackageVersion: 4073273/F, 11/2011; PackageReference: DGQ10-1675X1445TP; PackageDescription: 10-Pin Plastic Small Outline, Body 3 x 3 mm, Pitch 0.5 mm; Supplier 1: Digi-Key; Supplier Part Number 1: TPA0253DGQRG4-ND; Supplier 2: Mouser; Supplier Part Number 2: 595-TPA0253DGQRG4; Eco-Plan: Green (RoHS & no Sb/Br); Headphone Channels: Stereo; Speaker Amp Type: Class-AB; Speaker Channels: Mono; Mounting Technology: Surface Mount; Code_JEDEC: MO-187; ComponentLink1Description: Manufacturer URL; ComponentLink1URL: http://www.ti.com/; ComponentLink2Description: Datasheet; ComponentLink2URL: http://www.ti.com/general/docs/lit/getliterature.tsp?genericPartNumber=TPA0253&fileType=pdf; ComponentLink3Description: Package Specification; ComponentLink3URL: http://www.ti.com/litv/pdf/mpds043e
footprint TI-DGQ10-1675X1445TP_N (SOP, 10-Leads, Body 3.1x3.1mm, Pitch 0.5mm, Thermal Pad 1.88x1.57mm, IPC Medium Density)
footprint TI-DGQ10-1675X1445TP_L (SOP, 10-Leads, Body 3.1x3.1mm, Pitch 0.5mm, Thermal Pad 1.88x1.57mm, IPC High Density)
footprint TI-DGQ10-1675X1445TP_M (SOP, 10-Leads, Body 3.1x3.1mm, Pitch 0.5mm, Thermal Pad 1.88x1.57mm, IPC Low Density)
pins: 1 FILT_CAP "Terminal is used to filter supply.", 2 ~{SHUTDOWN} (in) "TTL-compatible shutdown terminal", 3 VDD (power) "VDD is the supply voltage terminal.", 4 BYPASS "Midrail bias voltage", 5 RIN (in) "Right-channel input terminal", 6 RO/MO+ (out) "Right-output in SE mode and mono positive output in BTL mode", 7 ST/~{MN} (in) "Selects between stereo and mono mode. When held high, the amplifier is in SE stereo mode, while held low,the amplifier is in BTL mono mode.", 8 GND (power) "Ground terminal", 9 LIN (in) "Left-channel input terminal", 10 LO/MO- (out) "Left-output in SE mode and mono negative output in BTL mode.", 11 EP

## TPA301D
designator U?
350-mW Mono Class-AB Audio Amplifier, -40 to 85 degC, 8-pin SOIC (D8), Green (RoHS & no Sb/Br); Manufacturer: Texas Instruments; PartNumber: TPA301D; Output Power(W): 0.35; PSRR(dB): 78; SubFamily: Dynamic Speaker; Supply Max(Max)(Volt): 5.5; Supply Min(Min)(Volt): 2.5; DatasheetVersion: SLOS208E; PackageVersion: 4040047-3/M, 06/2011; PackageReference: D8; PackageDescription: 8-Pin Plastic Small Outline, Body 4.9 x 3.9 mm, Pitch 1.27 mm; Supplier 1: Digi-Key; Supplier Part Number 1: 296-1945-5-ND; Supplier 2: Farnell; Supplier Part Number 2: 8456518; Supplier 3: Newark; Supplier Part Number 3: 38K8600; Supplier 4: Newark; Supplier Part Number 4: 76C9792; Supplier 5: Mouser; Supplier Part Number 5: 595-TPA301D; Eco-Plan: Green (RoHS & no Sb/Br); Speaker Amp Type: Class-AB; Speaker Channels: Mono; Mounting Technology: Surface Mount; Code_JEDEC: MS-012; ComponentLink1Description: Manufacturer URL; ComponentLink1URL: http://www.ti.com/; ComponentLink2Description: Datasheet; ComponentLink2URL: http://www.ti.com/general/docs/lit/getliterature.tsp?genericPartNumber=TPA301&fileType=pdf; ComponentLink3Description: Package Specification; ComponentLink3URL: http://www.ti.com/litv/pdf/msoi002j
footprint TI-D8_N (SOIC, 8-Leads, Body 5x4mm, Pitch 1.27mm, IPC Medium Density)
footprint TI-D8_L (SOIC, 8-Leads, Body 5x4mm, Pitch 1.27mm, IPC High Density)
footprint TI-D8_M (SOIC, 8-Leads, Body 5x4mm, Pitch 1.27mm, IPC Low Density)
pins: 1 SHUTDOWN (in) "SHUTDOWN places the entire device in shutdown mode when held high.", 2 BYPASS "BYPASS is the tap to the voltage divider for internal mid-supply bias. This terminal should be connected to a 0.1-uF to 2.2-uF capacitor when used as an audio amplifier.", 3 IN+ (in) "IN+ is the noninverting input. IN+ is typically tied to the BYPASS terminal.", 4 IN- (in) "IN- is the inverting input. IN- is typically used as the audio input terminal.", 5 VO+ (out) "VO+ is the positive BTL output.", 6 VDD (power) "VDD is the supply voltage terminal.", 7 GND (power) "GND is the ground connection.", 8 VO- (out) "VO- is the negative BTL output."

## TPA301DG4
designator U?
350-mW Mono Class-AB Audio Amplifier, -40 to 85 degC, 8-pin SOIC (D8), Green (RoHS & no Sb/Br); Manufacturer: Texas Instruments; PartNumber: TPA301DG4; Output Power(W): 0.35; PSRR(dB): 78; SubFamily: Dynamic Speaker; Supply Max(Max)(Volt): 5.5; Supply Min(Min)(Volt): 2.5; DatasheetVersion: SLOS208E; PackageVersion: 4040047-3/M, 06/2011; PackageReference: D8; PackageDescription: 8-Pin Plastic Small Outline, Body 4.9 x 3.9 mm, Pitch 1.27 mm; Supplier 1: Digi-Key; Supplier Part Number 1: TPA301DG4-ND; Supplier 2: Mouser; Supplier Part Number 2: 595-TPA301DG4; Eco-Plan: Green (RoHS & no Sb/Br); Speaker Amp Type: Class-AB; Speaker Channels: Mono; Mounting Technology: Surface Mount; Code_JEDEC: MS-012; ComponentLink1Description: Manufacturer URL; ComponentLink1URL: http://www.ti.com/; ComponentLink2Description: Datasheet; ComponentLink2URL: http://www.ti.com/general/docs/lit/getliterature.tsp?genericPartNumber=TPA301&fileType=pdf; ComponentLink3Description: Package Specification; ComponentLink3URL: http://www.ti.com/litv/pdf/msoi002j
footprint TI-D8_N (SOIC, 8-Leads, Body 5x4mm, Pitch 1.27mm, IPC Medium Density)
footprint TI-D8_L (SOIC, 8-Leads, Body 5x4mm, Pitch 1.27mm, IPC High Density)
footprint TI-D8_M (SOIC, 8-Leads, Body 5x4mm, Pitch 1.27mm, IPC Low Density)
pins: 1 SHUTDOWN (in) "SHUTDOWN places the entire device in shutdown mode when held high.", 2 BYPASS "BYPASS is the tap to the voltage divider for internal mid-supply bias. This terminal should be connected to a 0.1-uF to 2.2-uF capacitor when used as an audio amplifier.", 3 IN+ (in) "IN+ is the noninverting input. IN+ is typically tied to the BYPASS terminal.", 4 IN- (in) "IN- is the inverting input. IN- is typically used as the audio input terminal.", 5 VO+ (out) "VO+ is the positive BTL output.", 6 VDD (power) "VDD is the supply voltage terminal.", 7 GND (power) "GND is the ground connection.", 8 VO- (out) "VO- is the negative BTL output."

## TPA301DGN
designator U?
350-mW Mono Class-AB Audio Amplifier, -40 to 85 degC, 8-pin SOP (DGN8), Green (RoHS & no Sb/Br); Manufacturer: Texas Instruments; PartNumber: TPA301DGN; Output Power(W): 0.35; PSRR(dB): 78; SubFamily: Dynamic Speaker; Supply Max(Max)(Volt): 5.5; Supply Min(Min)(Volt): 2.5; DatasheetVersion: SLOS208E; PackageVersion: 4073271/F, 05/2011; PackageReference: DGN8-1760X1425TP; PackageDescription: 8-Pin Plastic Small Outline, Body 3 x 3 mm, Pitch 0.65 mm; Supplier 1: Digi-Key; Supplier Part Number 1: 296-1946-5-ND; Supplier 2: Newark; Supplier Part Number 2: 76C9793; Supplier 3: Mouser; Supplier Part Number 3: 595-TPA301DGN; Eco-Plan: Green (RoHS & no Sb/Br); Speaker Amp Type: Class-AB; Speaker Channels: Mono; Mounting Technology: Surface Mount; Code_JEDEC: MO-187; ComponentLink1Description: Manufacturer URL; ComponentLink1URL: http://www.ti.com/; ComponentLink2Description: Datasheet; ComponentLink2URL: http://www.ti.com/general/docs/lit/getliterature.tsp?genericPartNumber=TPA301&fileType=pdf; ComponentLink3Description: Package Specification; ComponentLink3URL: http://www.ti.com/litv/pdf/mpds046e
footprint TI-DGN8-1760X1425TP_N (SOP, 8-Leads, Body 3.1x3.1mm, Pitch 0.65mm, Thermal Pad 1.89x1.57mm, IPC Medium Density)
footprint TI-DGN8-1760X1425TP_L (SOP, 8-Leads, Body 3.1x3.1mm, Pitch 0.65mm, Thermal Pad 1.89x1.57mm, IPC High Density)
footprint TI-DGN8-1760X1425TP_M (SOP, 8-Leads, Body 3.1x3.1mm, Pitch 0.65mm, Thermal Pad 1.89x1.57mm, IPC Low Density)
pins: 1 SHUTDOWN (in) "SHUTDOWN places the entire device in shutdown mode when held high.", 2 BYPASS "BYPASS is the tap to the voltage divider for internal mid-supply bias.", 3 IN+ (in) "IN+ is the noninverting input. IN+ is typically tied to the BYPASS terminal.", 4 IN- (in) "IN- is the inverting input. IN- is typically used as the audio input terminal.", 5 VO+ (out) "VO+ is the positive BTL output.", 6 VDD (power) "VDD is the supply voltage terminal.", 7 GND (power) "GND is the ground connection.", 8 VO- (out) "VO- is the negative BTL output.", 9 EP

## TPA301DGNG4
designator U?
350-mW Mono Class-AB Audio Amplifier, -40 to 85 degC, 8-pin SOP (DGN8), Green (RoHS & no Sb/Br); Manufacturer: Texas Instruments; PartNumber: TPA301DGNG4; Output Power(W): 0.35; PSRR(dB): 78; SubFamily: Dynamic Speaker; Supply Max(Max)(Volt): 5.5; Supply Min(Min)(Volt): 2.5; DatasheetVersion: SLOS208E; PackageVersion: 4073271/F, 05/2011; PackageReference: DGN8-1760X1425TP; PackageDescription: 8-Pin Plastic Small Outline, Body 3 x 3 mm, Pitch 0.65 mm; Supplier 1: Digi-Key; Supplier Part Number 1: TPA301DGNG4-ND; Supplier 2: Newark; Supplier Part Number 2: 54K1487; Supplier 3: Mouser; Supplier Part Number 3: 595-TPA301DGNG4; Eco-Plan: Green (RoHS & no Sb/Br); Speaker Amp Type: Class-AB; Speaker Channels: Mono; Mounting Technology: Surface Mount; Code_JEDEC: MO-187; ComponentLink1Description: Manufacturer URL; ComponentLink1URL: http://www.ti.com/; ComponentLink2Description: Datasheet; ComponentLink2URL: http://www.ti.com/general/docs/lit/getliterature.tsp?genericPartNumber=TPA301&fileType=pdf; ComponentLink3Description: Package Specification; ComponentLink3URL: http://www.ti.com/litv/pdf/mpds046e
footprint TI-DGN8-1760X1425TP_N (SOP, 8-Leads, Body 3.1x3.1mm, Pitch 0.65mm, Thermal Pad 1.89x1.57mm, IPC Medium Density)
footprint TI-DGN8-1760X1425TP_L (SOP, 8-Leads, Body 3.1x3.1mm, Pitch 0.65mm, Thermal Pad 1.89x1.57mm, IPC High Density)
footprint TI-DGN8-1760X1425TP_M (SOP, 8-Leads, Body 3.1x3.1mm, Pitch 0.65mm, Thermal Pad 1.89x1.57mm, IPC Low Density)
pins: 1 SHUTDOWN (in) "SHUTDOWN places the entire device in shutdown mode when held high.", 2 BYPASS "BYPASS is the tap to the voltage divider for internal mid-supply bias.", 3 IN+ (in) "IN+ is the noninverting input. IN+ is typically tied to the BYPASS terminal.", 4 IN- (in) "IN- is the inverting input. IN- is typically used as the audio input terminal.", 5 VO+ (out) "VO+ is the positive BTL output.", 6 VDD (power) "VDD is the supply voltage terminal.", 7 GND (power) "GND is the ground connection.", 8 VO- (out) "VO- is the negative BTL output.", 9 EP